# EAGLE library part K4S28323LF (library MAX9812)
SAMSUNG's K4S28323LF - F(H)E/N/S/C/L/R Mobile-SDRAM 1M x 32Bit x 4 Banks Mobile SDRAM in 90FBGA Organization : 4Mx32 Vdd/Vddq : 2.5V / 2.5V Icc1/Icc6 : 90mA/600uA Speed : 166MHz, CL3; 133MHz, CL3; 105MHz, CL2/CL3 Features: 2.5V power supply. LVCMOS compatible with multiplexed address. Four banks operation. MRS cycle with address key programs. -. CAS latency (1, 2 & 3). -. Burst length (1, 2, 4, 8 & Full page). -. Burst type (Sequential & Interleave). EMRS cycle with address key programs. All inputs are sampled at the positive going edge of the system clock. Burst read single-bit write operation. Special Function Support. -. PASR (Partial Array Self Refresh). -. Internal TCSR (Temperature Compensated Self Refresh) DQM for masking. Auto refresh. 64ms refresh period (4K cycle). Commercial Temperature Operation (-25°C ~ 70°C). Extended Temperature Operation (-25°C ~ 85°C). 90Balls FBGA with 0.8mm ball pitch ( -FXXX : Leaded, -HXXX : Lead Free). Description: The K4S28323LF is 134,217,728 bits synchronous high data rate Dynamic RAM organized as 4 x 1,048,576 words by 32 bits, fabricated with SAMSUNG's high performance CMOS technology. Synchronous design allows precise cycle control with the use of system clock and I/O transactions are possible on every clock cycle. Range of operating frequencies, programmable burst lengths and programmable latencies allow the same device to be useful for a variety of high bandwidth and high performance memory system applications. Please send any comments to: messi@users.sourceforge.net
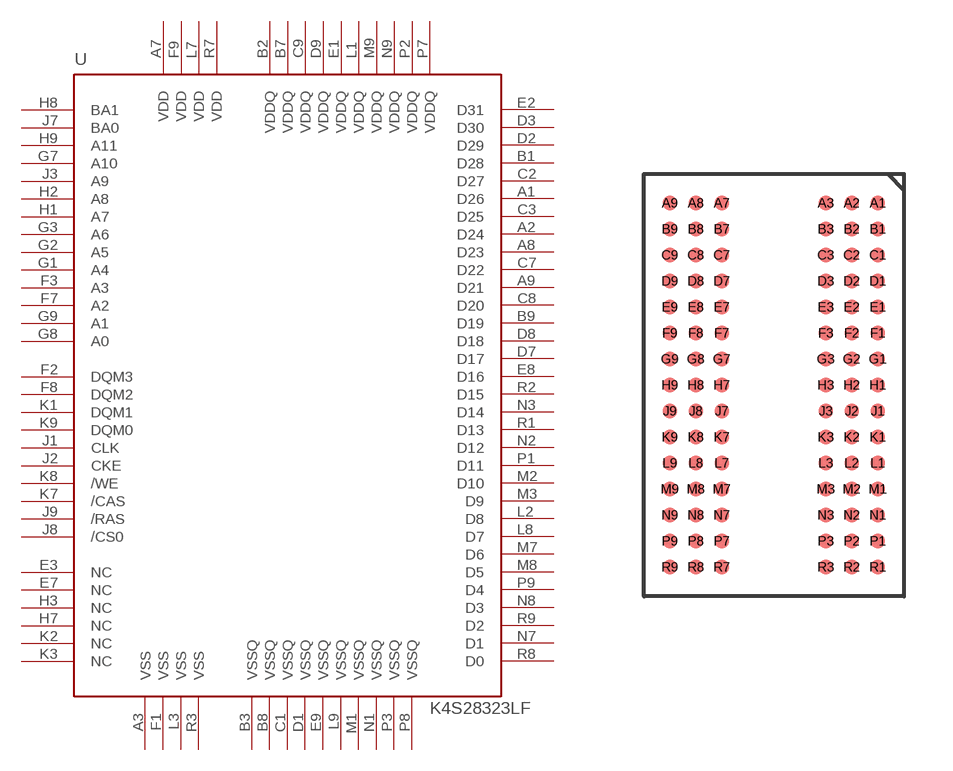
[diagram p21: symbol with the pads of 90FBGA; footprint 90FBGA]

Designator prefix U

## K4S28323LF  [90FBGA]
A1  D26
A2  D24
A3  VSS
A7  VDD
A8  D23
A9  D21
B1  D28
B2  VDDQ
B3  VSSQ
B7  VDDQ
B8  VSSQ
B9  D19
C1  VSSQ
C2  D27
C3  D25
C7  D22
C8  D20
C9  VDDQ
D1  VSSQ
D2  D29
D3  D30
D7  D17
D8  D18
D9  VDDQ
E1  VDDQ
E2  D31
E3  NC
E7  NC
E8  D16
E9  VSSQ
F1  VSS
F2  DQM3
F3  A3
F7  A2
F8  DQM2
F9  VDD
G1  A4
G2  A5
G3  A6
G7  A10
G8  A0
G9  A1
H1  A7
H2  A8
H3  NC
H7  NC
H8  BA1
H9  A11
J1  CLK
J2  CKE
J3  A9
J7  BA0
J8  /CS0
J9  /RAS
K1  DQM1
K2  NC
K3  NC
K7  /CAS
K8  /WE
K9  DQM0
L1  VDDQ
L2  D8
L3  VSS
L7  VDD
L8  D7
L9  VSSQ
M1  VSSQ
M2  D10
M3  D9
M7  D6
M8  D5
M9  VDDQ
N1  VSSQ
N2  D12
N3  D14
N7  D1
N8  D3
N9  VDDQ
P1  D11
P2  VDDQ
P3  VSSQ
P7  VDDQ
P8  VSSQ
P9  D4
R1  D13
R2  D15
R3  VSS
R7  VDD
R8  D0
R9  D2

## Footprint 90FBGA (pad centres in mm)
90 PIN FBGA Pitch: 0.8mm balldiameter 0.5mm Please send any comments to: messi@users.sourceforge.net
smd 0.45 x 0.45: A1 3.2,5.6; A2 2.4,5.6; A3 1.6,5.6; A7 -1.6,5.6; A8 -2.4,5.6; A9 -3.2,5.6; B1 3.2,4.8; B2 2.4,4.8; B3 1.6,4.8; B7 -1.6,4.8; B8 -2.4,4.8; B9 -3.2,4.8; C1 3.2,4; C2 2.4,4; C3 1.6,4; C7 -1.6,4; C8 -2.4,4; C9 -3.2,4; D1 3.2,3.2; D2 2.4,3.2; D3 1.6,3.2; D7 -1.6,3.2; D8 -2.4,3.2; D9 -3.2,3.2; E1 3.2,2.4; E2 2.4,2.4; E3 1.6,2.4; E7 -1.6,2.4; E8 -2.4,2.4; E9 -3.2,2.4; F1 3.2,1.6; F2 2.4,1.6; F3 1.6,1.6; F7 -1.6,1.6; F8 -2.4,1.6; F9 -3.2,1.6; G1 3.2,0.8; G2 2.4,0.8; G3 1.6,0.8; G7 -1.6,0.8; G8 -2.4,0.8; G9 -3.2,0.8; H1 3.2,0; H2 2.4,0; H3 1.6,0; H7 -1.6,0; H8 -2.4,0; H9 -3.2,0; J1 3.2,-0.8; J2 2.4,-0.8; J3 1.6,-0.8; J7 -1.6,-0.8; J8 -2.4,-0.8; J9 -3.2,-0.8; K1 3.2,-1.6; K2 2.4,-1.6; K3 1.6,-1.6; K7 -1.6,-1.6; K8 -2.4,-1.6; K9 -3.2,-1.6; L1 3.2,-2.4; L2 2.4,-2.4; L3 1.6,-2.4; L7 -1.6,-2.4; L8 -2.4,-2.4; L9 -3.2,-2.4; M1 3.2,-3.2; M2 2.4,-3.2; M3 1.6,-3.2; M7 -1.6,-3.2; M8 -2.4,-3.2; M9 -3.2,-3.2; N1 3.2,-4; N2 2.4,-4; N3 1.6,-4; N7 -1.6,-4; N8 -2.4,-4; N9 -3.2,-4; P1 3.2,-4.8; P2 2.4,-4.8; P3 1.6,-4.8; P7 -1.6,-4.8; P8 -2.4,-4.8; P9 -3.2,-4.8; R1 3.2,-5.6; R2 2.4,-5.6; R3 1.6,-5.6; R7 -1.6,-5.6; R8 -2.4,-5.6; R9 -3.2,-5.6